# Altium schematic symbol library IC - MAX3485CSA+T.SchLib: 1 symbol
Pins are listed as number, name and electrical type; pins without a type are passive.

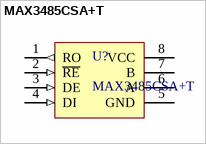
[diagram p0: symbol MAX3485CSA+T]

## MAX3485CSA+T
designator U?
Single Transmitter/Receiver RS-422/RS-485 8-Pin SOIC N T/R; Manufacturer: Analog Devices; Manufacturer Lifecycle Status: PRODUCTION; Data Rate: 10Mbps; ESD Protection: No; Interface: RS-422, RS-485; Logic Function: Transceiver; Max Power Dissipation: 727mW; Max Supply Voltage: 3.6V; Min Supply Voltage: 3V; Nominal Supply Current: 1mA; Number of Drivers: 1; Operating Supply Voltage: 3.3V; Output Current: 60mA; Output Voltage: 12.5V; Propagation Delay: 22ns; Receiver Hysteresis: 50mV; Simplex/Duplex: Half Duplex; Supplier: DigiKey; Supplier Part Number: MAX3485CSA+CT-ND; Manufacturer Part Number: MAX3485CSA+T; RoHS: Compliant; Category: RS-232 / RS-422 / RS-485 Interface ICs; Stock: 11039; Pricing: 1=5.64, 10=4.314, 25=3.9832, 100=3.6192, 250=3.44564, 500=3.341, 1000=3.25492 (USD); Case/Package: SOIC; Contact Plating: Tin; Lifecycle Status: Production; Max Operating Temperature: 70°C; Min Operating Temperature: 0°C; Mounting Technology: Surface Mount; Pins: 8; Number of Receivers: 1; Number of Transceivers: 1; Number of Transmitters: 1; Radiation Hardening: No; REACH SVHC: Unknown; Schedule B: 8542390000|8542390000|8542390000|8542390000|8542390000; ComponentLink1URL: https://octopart.com:443/opatz8j6/c1?t=vJdU3njzAySAhtUwXNpu7SE8Vju88HiVvC_DIIZb6iEuhKXaYmc_UWDJIuDhrFo_qRwJmBS0c7idbgKKdyze0oii1vCHSLeYq7kgXytPTwQRD4y0S-kTWuapLgIGlLP8JK-uhFCoh-ENDTBiYDALqF8ScllpziNA_rj0H5QWLqXxR45tqnYgl1O_mBPYmTs431sDF-IDWzF9jArDerAed83_GXPoh_yGMNf6lv-NQMspH7Ni_agzdb-TS3fyeIhH_Y65SE4u2jqcuMGin7ZdfLPjS4413ZBF8K6hv7ZXN8LUNM2OJLfhKPk&src-supplier=Analog+Devices; ComponentLink1Description: https://octopart.com:443/opatz8j6/c1?t=vJdU3njzAySAhtUwXNpu7SE8Vju88HiVvC_DIIZb6iEuhKXaYmc_UWDJIuDhrFo_qRwJmBS0c7idbgKKdyze0oii1vCHSLeYq7kgXytPTwQRD4y0S-kTWuapLgIGlLP8JK-uhFCoh-ENDTBiYDALqF8ScllpziNA_rj0H5QWLqXxR45tqnYgl1O_mBPYmTs431sDF-IDWzF9jArDerAed83_GXPoh_yGMNf6lv-NQMspH7Ni_agzdb-TS3fyeIhH_Y65SE4u2jqcuMGin7ZdfLPjS4413ZBF8K6hv7ZXN8LUNM2OJLfhKPk&src-supplier=Analog+Devices; ComponentLink2URL: https://datasheet.octopart.com:443/MAX3485CSA%2BT-Analog-Devices-datasheet-34184623.pdf?src-supplier=Augswan; ComponentLink2Description: https://datasheet.octopart.com:443/MAX3485CSA%2BT-Analog-Devices-datasheet-34184623.pdf?src-supplier=Augswan; ComponentLink3URL: https://sigma.octopart.com:443/138901689/technical_drawing/Maxim-Integrated-MAX3485CSA%2BT.pdf?src-supplier=ShanghaiCT; ComponentLink3Description: https://sigma.octopart.com:443/138901689/technical_drawing/Maxim-Integrated-MAX3485CSA%2BT.pdf?src-supplier=ShanghaiCT; ComponentLink4URL: https://datasheet.octopart.com:443/MAX3485CSA%2BT-Maxim-Integrated-datasheet-41311393.pdf?src-supplier=Future+Electronics; ComponentLink4Description: https://datasheet.octopart.com:443/MAX3485CSA%2BT-Maxim-Integrated-datasheet-41311393.pdf?src-supplier=Future+Electronics; ComponentLink5URL: https://datasheet.octopart.com:443/MAX3485CSA%2BT-Dallas-Semiconductor-datasheet-13706444.pdf?src-supplier=_legacy+Avnet; ComponentLink5Description: https://datasheet.octopart.com:443/MAX3485CSA%2BT-Dallas-Semiconductor-datasheet-13706444.pdf?src-supplier=_legacy+Avnet; ComponentLink6URL: https://datasheet.octopart.com:443/MAX3485CSA%2BT-Maxim-Integrated-datasheet-15934920.pdf?src-supplier=iiiC; ComponentLink6Description: https://datasheet.octopart.com:443/MAX3485CSA%2BT-Maxim-Integrated-datasheet-15934920.pdf?src-supplier=iiiC; ComponentLink7URL: http://sigma.octopart.com:80/conflict_mineral_statement/Analog-Devices-company-33.pdf?src-supplier=Compliance+Statements; ComponentLink7Description: http://sigma.octopart.com:80/conflict_mineral_statement/Analog-Devices-company-33.pdf?src-supplier=Compliance+Statements; ComponentLink8URL: http://sigma.octopart.com:80/conflict_mineral_statement/Maxim-Integrated-company-65.pdf?src-supplier=Compliance+Statements; ComponentLink8Description: http://sigma.octopart.com:80/conflict_mineral_statement/Maxim-Integrated-company-65.pdf?src-supplier=Compliance+Statements; ComponentLink9URL: http://sigma.octopart.com:80/rohs_statement/Maxim-Integrated-company-66.pdf?src-supplier=Compliance+Statements; ComponentLink9Description: http://sigma.octopart.com:80/rohs_statement/Maxim-Integrated-company-66.pdf?src-supplier=Compliance+Statements; ComponentLink10URL: http://sigma.octopart.com:80/reach_statement/Maxim-Integrated-company-67.pdf?src-supplier=Compliance+Statements; ComponentLink10Description: http://sigma.octopart.com:80/reach_statement/Maxim-Integrated-company-67.pdf?src-supplier=Compliance+Statements; ComponentLink11URL: https://octopart.com:443/opatz8j6/c1?t=_dvK_BaXiJSFZFRYgArOaMmqHj67NvqDyUHzPNKoIUK7P1vrHsS-b53x734kGxjb0WPMZ7o2BEYX9lmGHudUJaeIeh-iqIIpGWRDFifFDlK-UY_xQzIjkmPoHU7FGKlCTm_gQfX6Yma_AaXcNTLvssWzWhKS0nynzuYiHmmam3BZcr3Sth8YN7k1mDd2gF9RxQ2sAkX3_PA-1W37svN60GeWwEEI2rkkFn5egMdFH9DVItbXYH8sAkkrhDGoEHnbf3VG8ZFYHg5-IQ4JrIgnqJw8LlnNEH62zd89pC_PpVGSu3PNQJLvr60&src-supplier=Compliance+Statements; ComponentLink11Description: https://octopart.com:443/opatz8j6/c1?t=_dvK_BaXiJSFZFRYgArOaMmqHj67NvqDyUHzPNKoIUK7P1vrHsS-b53x734kGxjb0WPMZ7o2BEYX9lmGHudUJaeIeh-iqIIpGWRDFifFDlK-UY_xQzIjkmPoHU7FGKlCTm_gQfX6Yma_AaXcNTLvssWzWhKS0nynzuYiHmmam3BZcr3Sth8YN7k1mDd2gF9RxQ2sAkX3_PA-1W37svN60GeWwEEI2rkkFn5egMdFH9DVItbXYH8sAkkrhDGoEHnbf3VG8ZFYHg5-IQ4JrIgnqJw8LlnNEH62zd89pC_PpVGSu3PNQJLvr60&src-supplier=Compliance+Statements; Supplier 1: DigiKey; Supplier Part Number 1: MAX3485CSA+CT-ND
pins: 1 RO (out), 2 ~{RE} (in), 3 DE (in), 4 DI (in), 5 GND (power), 6 A, 7 B, 8 VCC (power)